# Altium schematic symbol library BAT54C-7-F.SchLib: 1 symbol
Pins are listed as number, name and electrical type; pins without a type are passive.

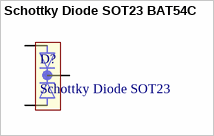
[diagram p0: symbol Schottky Diode SOT23 BAT54C]

## Schottky Diode SOT23 BAT54C
designator D?, comment Schottky Diode SOT23
Schottky Diode 2x ComCath 0.2A 30V SOT23 | Diodes Inc BAT54C; MF: Diodes Inc.; MP: BAT54C-7-F; SnapEDA_Link: https://www.snapeda.com/parts/BAT54C-7-F/Diodes+Inc./view-part/?ref=snap; Package: SOT-23 Diodes Inc.; Value: *; Check_prices: https://www.snapeda.com/parts/BAT54C-7-F/Diodes+Inc./view-part/?ref=eda
footprint SOT91P240X115-3N
pins: 1 A1, 2 A2, 3 C